# Altium schematic symbol library ESC SCH Lib.SchLib: 34 symbols
Pins are listed as number, name and electrical type; pins without a type are passive.

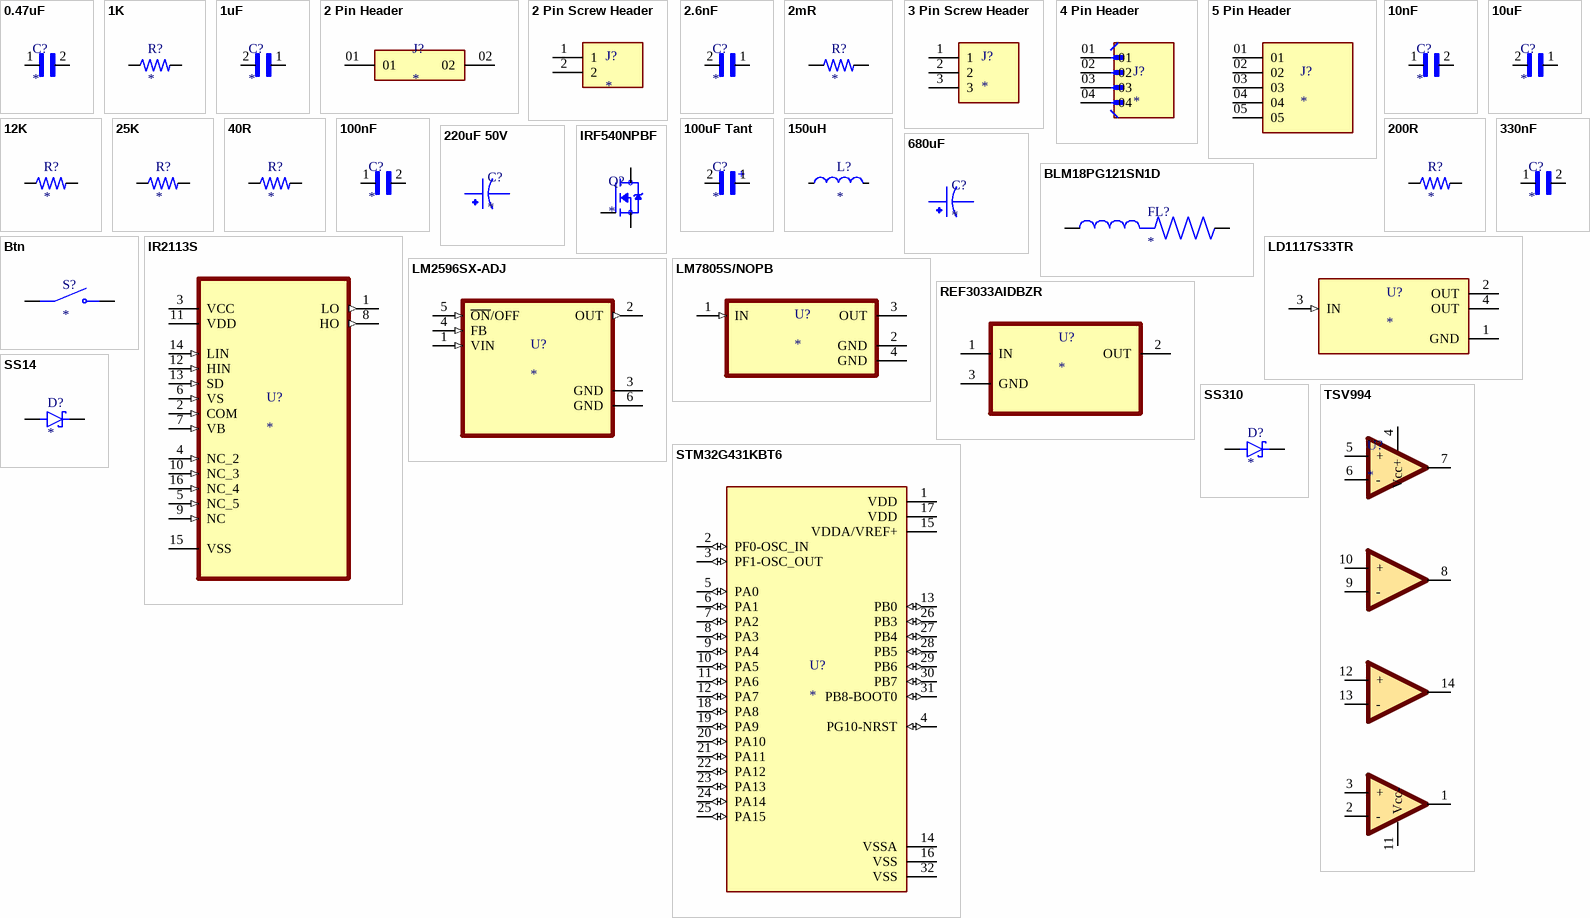
[diagram p0: symbols 0.47uF to TSV994]

## 0.47uF
designator C?
0.47ÂµF Â±10% 25V Ceramic Capacitor X7R 0603 (1608 Metric); MP: CL10B474KA8NFNC; MF: Samsung Electro-Mechanics; Check_prices: https://www.snapeda.com/parts/CL10B474KA8NFNC/Samsung%20Electro-Mechanics/view-part/3599462/?ref=eda; Purchase-URL: https://pricing.snapeda.com/search/part/CL10B474KA8NFNC/?ref=eda; Availability: Warning; Package: 0603 Samsung; Price: None; SnapEDA_Link: https://www.snapeda.com/parts/CL10B474KA8NFNC/Samsung%20Electro-Mechanics/view-part/3599462/?ref=snap; Value: *
footprint CAPC1608X90N
footprint 0603 (Footprint not found)
footprint 0603 Footprint
pins: 1, 2

## 1K
designator R?
1 kOhms Â±1% 0.1W, 1/10W Chip Resistor 0603 (1608 Metric) Moisture Resistant Thick Film; MF: Yageo; MP: RC0603FR-071KL; SnapEDA_Link: https://www.snapeda.com/parts/RC0603FR-071KL/Yageo/view-part/?ref=snap; Package: 0603 Yageo; Value: *; Check_prices: https://www.snapeda.com/parts/RC0603FR-071KL/Yageo/view-part/?ref=eda
footprint RESC1607X60N
footprint 0603 Footprint
pins: 1, 2

## 1uF
designator C?
1ÂµF Â±10% 25V Ceramic Capacitor X5R 0603 (1608 Metric); MP: CL10A105KA8NNNC; MF: Samsung Electro-Mechanics; Arrow_Electronics-Purchase-URL: https://snapeda.com/shop?store=Arrow+Electronics&id=3597973; Value: *; Arrow_Europe-Purchase-URL: https://snapeda.com/shop?store=Arrow+Europe&id=3597973; SnapEDA_Link: https://www.snapeda.com/parts/CL10A105KA8NNNC/Samsung%20Electro-Mechanics/view-part/3597973/?ref=snap; Digi-Key_Part_Number: 1276-1102-1-ND; Package: 0603 Samsung; DigiKey-Purchase-URL: https://snapeda.com/shop?store=DigiKey&id=3597973
footprint CAPC1608X90N
footprint 0603 Footprint
pins: 1, 2

## 2 Pin Header
designator J?
Connector Header Through Hole 2 position; MF: Samtec; MP: MTMM-101-10-G-D-135; Availability: In Stock; Value: *; Price: None; Check_prices: https://www.snapeda.com/parts/MTMM-101-10-G-D-135/Samtec/view-part/?ref=eda; Package: None; Purchase-URL: https://pricing.snapeda.com/search/part/MTMM-101-10-G-D-135/?ref=eda; SnapEDA_Link: https://www.snapeda.com/parts/MTMM-101-10-G-D-135/Samtec/view-part/?ref=snap
footprint SAMTEC_MTMM-101-10-G-D-135
pins: 01, 02

## 2 Pin Screw Header
designator J?
MF: {'manufacturer': u'Phoenix Contact'}; MP: 1729128; Package: None; Price: None; Value: *; Availability: Unavailable
footprint PHOENIX_1729128
pins: 1, 2

## 2.6nF
designator C?
2.6nF 0603; MP: CL10A105KA8NNNC; MF: Samsung Electro-Mechanics; Arrow_Electronics-Purchase-URL: https://snapeda.com/shop?store=Arrow+Electronics&id=3597973; Value: *; Arrow_Europe-Purchase-URL: https://snapeda.com/shop?store=Arrow+Europe&id=3597973; SnapEDA_Link: https://www.snapeda.com/parts/CL10A105KA8NNNC/Samsung%20Electro-Mechanics/view-part/3597973/?ref=snap; Digi-Key_Part_Number: 1276-1102-1-ND; Package: 0603 Samsung; DigiKey-Purchase-URL: https://snapeda.com/shop?store=DigiKey&id=3597973
footprint CAPC1608X90N
footprint 0603 Footprint
pins: 1, 2

## 2mR
designator R?
RLP73K 3A R16 5% 2K RL; MP: 3-2176058-0; Package: None; Price: None; Value: *; Availability: Unavailable
footprint RESC6331X70N
footprint 2512 Footprint
pins: 1, 2

## 3 Pin Screw Header
designator J?
HEADER, PCB, SCREW, 5.08MM, 3WAY; Connector Type: PCB; Series: MKDSN 2, 5; Connector Mounting: PCB; Pitch Spacing: 5....; MP: MKDSN2,5/3-5.08; MF: Phoenix Contact; Availability: Not in stock; SnapEDA_Link: https://www.snapeda.com/parts/MKDSN2,5/3-5.08/Phoenix+Contact/view-part/?ref=snap; Package: None; Check_prices: https://www.snapeda.com/parts/MKDSN2,5/3-5.08/Phoenix+Contact/view-part/?ref=eda; Value: *; Price: None
footprint PHOENIX_MKDSN2,5/3-5.08
pins: 1, 2, 3

## 4 Pin Header
designator J?
Connector Header Through Hole 4 position 0.100 (2.54mm); MF: Wurth Electronics; MP: 61300411121; SnapEDA_Link: https://www.snapeda.com/parts/61300411121/Wurth+Electronics+Inc./view-part/?ref=snap; Package: None; Value: *; Check_prices: https://www.snapeda.com/parts/61300411121/Wurth+Electronics+Inc./view-part/?ref=eda
footprint WURTH_61300411121
pins: 01, 02, 03, 04

## 5 Pin Header
designator J?
MP: TLW-105-06-T-S; Package: None; Price: None; Value: *; Availability: Unavailable
footprint SAMTEC_TLW-105-06-T-S
pins: 01, 02, 03, 04, 05

## 10nF
designator C?
25V 10nF X7R ±10% 0402 Multilayer Ceramic Capacitors MLCC - SMD/SMT ROHS; MP: CL10B474KA8NFNC; MF: Samsung Electro-Mechanics; Check_prices: https://www.snapeda.com/parts/CL10B474KA8NFNC/Samsung%20Electro-Mechanics/view-part/3599462/?ref=eda; Purchase-URL: https://pricing.snapeda.com/search/part/CL10B474KA8NFNC/?ref=eda; Availability: Warning; Package: 0603 Samsung; Price: None; SnapEDA_Link: https://www.snapeda.com/parts/CL10B474KA8NFNC/Samsung%20Electro-Mechanics/view-part/3599462/?ref=snap; Value: *
footprint CAPC1608X90N
footprint 0402 Footprint
pins: 1, 2

## 10uF
designator C?
10ÂµF Â±20% 6.3V Ceramic Capacitor X5R 0402 (1005 Metric); MF: Samsung; MP: CL05A106MQ5NUNC; SnapEDA_Link: https://www.snapeda.com/parts/CL05A106MQ5NUNC/Samsung/view-part/3597832/?ref=snap; Value: *; Availability: Good; Package: 0402 Samsung; DigiKey-Purchase-URL: https://snapeda.com/shop?store=DigiKey&id=3597832; Arrow_Electronics-Purchase-URL: https://snapeda.com/shop?store=Arrow+Electronics&id=3597832; Price: None
footprint CAPC1005X55N
footprint 0402 Footprint
pins: 1, 2

## 12K
designator R?
12K 0603; MF: Yageo; MP: RC0603FR-071KL; SnapEDA_Link: https://www.snapeda.com/parts/RC0603FR-071KL/Yageo/view-part/?ref=snap; Package: 0603 Yageo; Value: *; Check_prices: https://www.snapeda.com/parts/RC0603FR-071KL/Yageo/view-part/?ref=eda
footprint RESC1607X60N
footprint 0603 Footprint
pins: 1, 2

## 25K
designator R?
25K Ohm 0603; MF: Yageo; MP: RC0603FR-071KL; SnapEDA_Link: https://www.snapeda.com/parts/RC0603FR-071KL/Yageo/view-part/?ref=snap; Package: 0603 Yageo; Value: *; Check_prices: https://www.snapeda.com/parts/RC0603FR-071KL/Yageo/view-part/?ref=eda
footprint RESC1607X60N
footprint 0603 Footprint
pins: 1, 2

## 40R
designator R?
40R 0603; MF: Yageo; MP: RC0603FR-071KL; SnapEDA_Link: https://www.snapeda.com/parts/RC0603FR-071KL/Yageo/view-part/?ref=snap; Package: 0603 Yageo; Value: *; Check_prices: https://www.snapeda.com/parts/RC0603FR-071KL/Yageo/view-part/?ref=eda
footprint RESC1607X60N
footprint 0603 Footprint
pins: 1, 2

## 100nF
designator C?
0.1ÂµF Â±10% 50V Ceramic Capacitor X7R 0603 _1608 Metric_; MP: CL10B104KB8NNNC; MF: Samsung Electro-Mechanics; Price: None; SnapEDA_Link: https://www.snapeda.com/parts/CL10B104KB8NNNC/Samsung%20Electro-Mechanics/view-part/3598309/?ref=snap; Availability: Unavailable; Package: 0603 Samsung; Value: *
footprint CAPC1608X90N
footprint 0603 Footprint
pins: 1, 2

## 100uF Tant
designator C?
100ÂµF Molded Tantalum Capacitors 20V 2917 (7343 Metric) 500mOhm / TAJD107K020RNJ; MF: AVX; MP: TAJD107K020RNJ; SnapEDA_Link: https://www.snapeda.com/parts/TAJD107K020RNJ/AVX/view-part/245066/?ref=snap; Availability: Unavailable; Value: *; Package: 2917 AVX; Price: None
footprint CAPPM7343X310N
footprint CAPPM7343X310N
pins: 1, 2
text: +

## 150uH
designator L?
150uH Power Inductor / SMD 15mm x 15mm
footprint SMD 15x15
pins: 1, 2

## 200R
designator R?
200R 0603; MF: Yageo; MP: RC0603FR-071KL; SnapEDA_Link: https://www.snapeda.com/parts/RC0603FR-071KL/Yageo/view-part/?ref=snap; Package: 0603 Yageo; Value: *; Check_prices: https://www.snapeda.com/parts/RC0603FR-071KL/Yageo/view-part/?ref=eda
footprint RESC1607X60N
footprint 0603 Footprint
pins: 1, 2

## 220uF 50V
designator C?
220ÂµF 50V Aluminum Electrolytic Capacitors Radial, Can - SMD 1000 Hrs @ 105Â°C; MF: Nichicon; MP: UWT1H221MNL1GS; Package: Radial Nichicon; Price: None; Availability: Unavailable; SnapEDA_Link: https://www.snapeda.com/parts/UWT1H221MNL1GS/Nichicon/view-part/566503/?ref=snap; Value: *
footprint CAPAE1030X1080N_UWT1H221MNL1GS
pins: 1, 2

## 330nF
designator C?
330nF 0603; MP: CL10B104KB8NNNC; MF: Samsung Electro-Mechanics; Price: None; SnapEDA_Link: https://www.snapeda.com/parts/CL10B104KB8NNNC/Samsung%20Electro-Mechanics/view-part/3598309/?ref=snap; Availability: Unavailable; Package: 0603 Samsung; Value: *
footprint CAPC1608X90N
footprint 0603 Footprint
pins: 1, 2

## 680uF
designator C?
680uF 100V 64mΩ@100kHz ±20% 1.41A@100kHz. Aluminum Electrolytic; MP: 478CKS010M; MF: Illinois Capacitor; SnapEDA_Link: https://www.snapeda.com/parts/478CKS010M/Illinois%20Capacitor/view-part/2347563/?ref=snap; Price: None; Mouser-Purchase-URL: https://snapeda.com/shop?store=Mouser&id=2347563; Availability: Warning; Package: Radial Illinois Capacitor; Value: *
footprint CAPPRD500W60D1330H2700
footprint CAPPRD750W80D1600H2500
pins: 1, 2

## BLM18PG121SN1D
designator FL?
120 Ohms @ 100MHz 1 Power Line Ferrite Bead 0603 _1608 Metric_ 2A 50mOhm; MF: Murata; MP: BLM18PG121SN1D; Package: 1608 Murata; Digi-Key_Purchase_URL: https://www.digikey.com/product-detail/en/murata-electronics/BLM18PG121SN1D/490-1037-1-ND/584485?utm_source=snapeda&utm_medium=aggregator&utm_campaign=symbol; Value: *; SnapEDA_Link: https://www.snapeda.com/parts/BLM18PG121SN1D/Murata/view-part/12271/?ref=snap; Digi-Key_Part_Number: 490-1037-1-ND
footprint 0603 Footprint
pins: 1, 2

## Btn
designator S?
Switch Tactile OFF (ON) SPST Round Button Gull Wing 0.05A 24VDC 1VA 9.18N SMD T/R / 3-1437565-0; MF: TE Connectivity; MP: 3-1437565-0; Package: SMD-6 Omron Electronics; Purchase-URL: https://pricing.snapeda.com/search/part/3-1437565-0/?ref=eda; Price: None; Value: *; SnapEDA_Link: https://www.snapeda.com/parts/3-1437565-0/TE%20Connectivity/view-part/294084/?ref=snap; Availability: Good
footprint SW_3-1437565-0
pins: 1 COM, 2 COM, 3 NO, 4 NO

## IR2113S
designator U?
Half-Bridge Gate Driver IC Non-Inverting 16-SOIC; MF: Infineon Technologies; MP: IR2113S; Value: *; SnapEDA_Link: https://www.snapeda.com/parts/IR2113S/Infineon%20Technologies/view-part/577803/?ref=snap; Package: SOIC-16 Infineon; Availability: Unavailable; Price: None
footprint SOIC127P1032X265-16N
footprint IR2113S
pins: 1 LO (out), 2 COM (in), 3 VCC (power), 4 NC_2 (in), 5 NC_5 (in), 6 VS (in), 7 VB (in), 8 HO (out), 9 NC (in), 10 NC_3 (in), 11 VDD (power), 12 HIN (in), 13 SD (in), 14 LIN (in), 15 VSS, 16 NC_4 (in)

## IRF540NPBF
designator Q?
RoHS Compliant | Low RDS(on) | Industry-leading quality | Dynamic dv/dt Rating | Fast Switching | Fully Avalanche Rated | 175C Operating Temperature; MP: IRF540NPBF; MF: Infineon; SnapEDA_Link: https://www.snapeda.com/parts/IRF540NPBF/Infineon+Technologies/view-part/?ref=snap; Availability: In Stock; Purchase-URL: https://pricing.snapeda.com/search/part/IRF540NPBF/?ref=eda; Price: None; Value: *; Check_prices: https://www.snapeda.com/parts/IRF540NPBF/Infineon+Technologies/view-part/?ref=eda; Package: TO-220 Infineon
footprint TO254P1054X469X1930-3
pins: 1 G, 2 D, 3 S

## LD1117S33TR
designator U?
Linear Voltage Regulator IC Positive Fixed 1 Output 800mA SOT-223; MP: LD1117S33TR; MF: STMicroelectronics; Value: *; SnapEDA_Link: https://www.snapeda.com/parts/LD1117S33TR/STMicroelectronics/view-part/?ref=snap; Purchase-URL: https://pricing.snapeda.com/search/part/LD1117S33TR/?ref=eda; Check_prices: https://www.snapeda.com/parts/LD1117S33TR/STMicroelectronics/view-part/?ref=eda; Availability: In Stock; Price: None; Package: TO-261-4 STMicroelectronics
footprint SOT230P700X180-4N
pins: 1 GND (power), 2 OUT (power), 3 IN (in), 4 OUT (power)

## LM2596SX-ADJ
designator U?
SIMPLE SWITCHER&reg; 4.5V to 40V, 3A Low Component Count Step-Down Regulator 5-DDPAK/TO-263 -40 to 125; MP: LM2596SX-ADJ; MF: Texas Instruments; Check_prices: https://www.snapeda.com/parts/LM2596SX-ADJ/Texas+Instruments/view-part/?ref=eda; Value: *; Availability: In Stock; Price: None; Package: TO-263-5 Texas Instruments; SnapEDA_Link: https://www.snapeda.com/parts/LM2596SX-ADJ/Texas+Instruments/view-part/?ref=snap; Purchase-URL: https://pricing.snapeda.com/search/part/LM2596SX-ADJ/?ref=eda
footprint VREG_LM2596SX-ADJ
pins: 1 VIN (in), 2 OUT (out), 3 GND (power), 4 FB (in), 5 ~{ON}/OFF (in), 6 GND (power)

## LM7805S/NOPB
designator U?
1.5-A, 30-V, linear voltage regulator; MP: LM7805S/NOPB; MF: Texas Instruments; Check_prices: https://www.snapeda.com/parts/LM7805S/NOPB/Texas+Instruments/view-part/?ref=eda; Value: *; Availability: In Stock; Price: None; Package: TO-263-3 Texas Instruments; SnapEDA_Link: https://www.snapeda.com/parts/LM7805S/NOPB/Texas+Instruments/view-part/?ref=snap; Purchase-URL: https://pricing.snapeda.com/search/part/LM7805S/NOPB/?ref=eda
footprint TO254P1524X483-4N
pins: 1 IN (in), 2 GND (power), 3 OUT (power), 4 GND (power)

## REF3033AIDBZR
designator U?
Series Voltage Reference IC Â±0.2% SOT-23-3; MF: Texas Instruments; MP: REF3033AIDBZR; Package: SOT-23-3 Texas Instruments; SnapEDA_Link: https://www.snapeda.com/parts/REF3033AIDBZR/Texas%20Instruments/view-part/298602/?ref=snap; Value: *; Price: None; Availability: Unavailable
footprint SOT95P237X112-3N
pins: 1 IN (power), 2 OUT (power), 3 GND

## SS14
designator D?
MP: SS14; Value: *; Availability: Unavailable; Price: None; Package: None
footprint DIOM4325X250N
pins: A, C K

## SS310
designator D?
3A, 100V, Schottky Rectifier; MF: Taiwan Semiconductor; MP: SS310; SnapEDA_Link: https://www.snapeda.com/parts/SS310/Taiwan+Semiconductor/view-part/?ref=snap; Package: DO-214AB-2 Taiwan Semiconductor; Value: *; Check_prices: https://www.snapeda.com/parts/SS310/Taiwan+Semiconductor/view-part/?ref=eda
footprint DIO_SS310
pins: A, C K

## STM32G431KBT6
designator U?
ARMÂ® CortexÂ®-M4F STM32G4 Microcontroller IC 32-Bit 170MHz 128KB _128K x 8_ FLASH 32-LQFP _7x7_; MP: STM32G431KBT6; MF: STMicroelectronics; Price: None; SnapEDA_Link: https://www.snapeda.com/parts/STM32G431KBT6/STMicroelectronics/view-part/4422336/?ref=snap; Availability: Unavailable; Value: *; Package: LQFP-32 STMicroelectronics
footprint QFP80P900X900X160-32N
pins: 1 VDD (power), 2 PF0-OSC_IN (io), 3 PF1-OSC_OUT (io), 4 PG10-NRST (io), 5 PA0 (io), 6 PA1 (io), 7 PA2 (io), 8 PA3 (io), 9 PA4 (io), 10 PA5 (io), 11 PA6 (io), 12 PA7 (io), 13 PB0 (io), 14 VSSA (power), 15 VDDA/VREF+ (power), 16 VSS (power), 17 VDD (power), 18 PA8 (io), 19 PA9 (io), 20 PA10 (io), 21 PA11 (io), 22 PA12 (io), 23 PA13 (io), 24 PA14 (io), 25 PA15 (io), 26 PB3 (io), 27 PB4 (io), 28 PB5 (io), 29 PB6 (io), 30 PB7 (io), 31 PB8-BOOT0 (io), 32 VSS (power)

## TSV994
designator U?
footprint TSV994IDT
pins: 1 Out, 2 -, 3 +, 4 Vcc+, 5 +, 6 -, 7 Out, 8 Out, 9 -, 10 +, 11 Vcc-, 12 +, 13 -, 14 Out